# Altium footprint library PcbLib1.PcbLib: 32 footprints (part 1 of 2)
Each footprint in its own frame and in the unit in brackets; x right, y up, seen from the top. Pads: shape width x height; smd on the part's side, far side on the other; paste and mask are expansions set on the pad; w line width, h text height; cw(c..) or ccw(c..) is an arc to the next point about the centre after c.
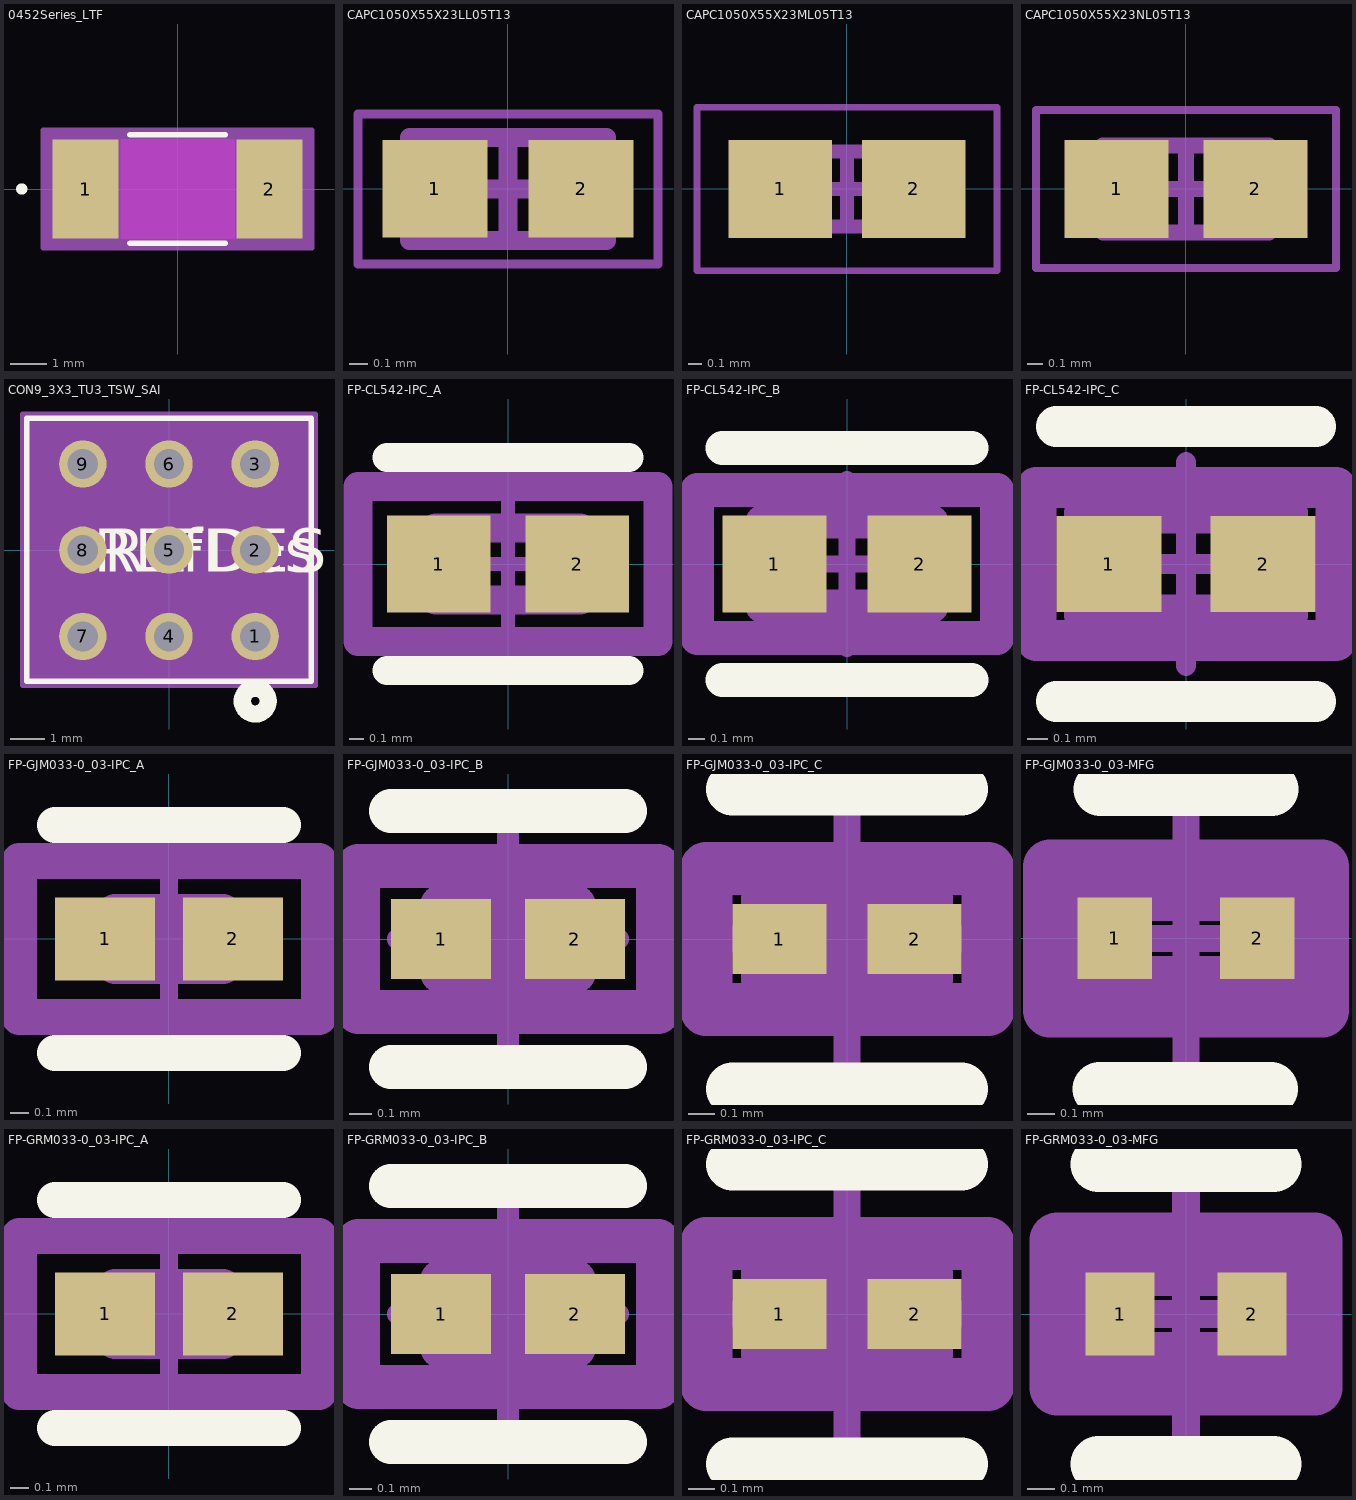
[diagram p0: the footprints below, top view; thin cyan lines are the x and y axes]

## 0452Series_LTF [mil]
pads (2):
  rect 70.78x106 smd paste+0 mask+0: 1(-98.39,0) 2(98.39,0)
Top Layer keep-out:
  region: -61,-51 -61,51 61,51 61,-51
Top Overlay:
  circle w6: c-166.78,0 r3
  lines w6: -50.89,-58 50.89,-58 ; -50.89,58 50.89,58
  text ".Designator" at -137.5,-25 h50
Keep-Out Layer:
  region: -61,-53 -61,53 61,53 61,-53
Mechanical 13:
  circle w1: c-110,0 r3
  lines w1: -120,-53 -120,53 ; -120,-53 -63,-53 -63,53 -120,53 ; -120,-53 120,-53 ; -120,-53 -120,53 ; -120,53 120,53 ; 120,-53 63,-53 63,53 120,53 ; 120,-53 120,53 ; 120,-53 120,53
  text ".Designator" at -137.5,-25 h50
Mechanical 15:
  region: 143.78,-63 -143.78,-63 -143.78,63 143.78,63
  lines w6: -143.78,-63 -143.78,63 143.78,63 143.78,-63 -143.78,-63
3D body "0452Series_LTF.step": height 105.98, standoff 0, extent -120,-52.99 120,52.99

## CAPC1050X55X23LL05T13 [mm] "Chip Capacitor, 2-Leads, Body 1.05x0.55mm, IPC High Density"
height 0.55
pads (2):
  rect 0.56x0.52 smd: 1(-0.39,0) 2(0.39,0)
Mechanical 13:
  lines w0.1: -0.525,-0.275 0.525,-0.275 0.525,0.275 -0.525,0.275 -0.525,-0.275
Mechanical 15:
  lines w0.05: -0.8,-0.4 0.8,-0.4 0.8,0.4 -0.8,0.4 -0.8,-0.4
  lines w0.1: -0.275,0 0.275,0 ; 0,-0.275 0,0.275
3D body: height 0.55, standoff 0, extent 0.295,-0.275 0.525,0.275
3D body: height 0.55, standoff 0, extent -0.525,-0.275 -0.295,0.275
3D body: height 0.55, standoff 0, extent -0.295,-0.275 0.295,0.275

## CAPC1050X55X23ML05T13 [mm] "Chip Capacitor, 2-Leads, Body 1.05x0.55mm, IPC Low Density"
height 0.55
pads (2):
  rect 0.76x0.72 smd: 1(-0.49,0) 2(0.49,0)
Mechanical 13:
  lines w0.1: -0.525,-0.275 0.525,-0.275 0.525,0.275 -0.525,0.275 -0.525,-0.275
Mechanical 15:
  lines w0.05: -1.1,-0.6 1.1,-0.6 1.1,0.6 -1.1,0.6 -1.1,-0.6
  lines w0.1: -0.275,0 0.275,0 ; 0,-0.275 0,0.275
3D body: height 0.55, standoff 0, extent 0.295,-0.275 0.525,0.275
3D body: height 0.55, standoff 0, extent -0.525,-0.275 -0.295,0.275
3D body: height 0.55, standoff 0, extent -0.295,-0.275 0.295,0.275

## CAPC1050X55X23NL05T13 [mm] "Chip Capacitor, 2-Leads, Body 1.05x0.55mm, IPC Medium Density"
height 0.55
pads (2):
  rect 0.66x0.62 smd: 1(-0.44,0) 2(0.44,0)
Mechanical 13:
  lines w0.1: -0.525,-0.275 -0.525,0.275 0.525,0.275 0.525,-0.275 -0.525,-0.275
Mechanical 15:
  lines w0.05: -0.95,-0.5 -0.95,0.5 0.95,0.5 0.95,-0.5 -0.95,-0.5
  lines w0.1: -0.275,0 0.275,0 ; 0,-0.275 0,0.275
3D body: height 0.55, standoff 0, extent -0.295,-0.275 0.295,0.275
3D body: height 0.55, standoff 0, extent -0.525,-0.275 -0.295,0.275
3D body: height 0.55, standoff 0, extent 0.295,-0.275 0.525,0.275

## CON9_3X3_TU3_TSW_SAI [mil]
pads (9):
  round 55 / inner round 60 / far side round 55 hole 35 paste-99999 mask+0: 1(100,-100) 2(100,0) 3(100,100) 4(0,-100) 5(0,0) 6(0,100) 7(-100,-100) 8(-100,0) 9(-100,100)
Top Overlay:
  circle w20: c100,-175 r15
  lines w6: -165,-152 165,-152 165,153 -165,153 -165,-152
  text "RefDes" at -75,-25 h50
  text "REFDES" at -87.5,-25 h50
Bottom Overlay:
  circle w20: c100,-175 r15
Mechanical 13:
  circle w0: c100,-100 r10
  lines w1: -160,-147 160,-147 160,148 -160,148 -160,-147
  text "RefDes2" at -87.5,-25 h50
Mechanical 15:
  region: 170,158 137.5,158 -137.5,158 -170,158 -170,-157 -137.5,-157 137.5,-157 170,-157
  lines w6: -170,-157 -170,158 -137.5,158 137.5,158 170,158 170,-157 137.5,-157 -137.5,-157 -170,-157

## FP-CL542-IPC_A [mil]
pads (2):
  rect 28.16x26.48 smd paste+0 mask+0: 1(-18.84,0) 2(18.84,0)
Top Overlay:
  lines w7.87: -32.92,-28.99 32.92,-28.99 ; -32.92,28.99 32.92,28.99
Top 3D Body:
  lines w7.87: -19.68,-9.84 19.68,-9.84 19.68,9.84 -19.68,9.84 -19.68,-9.84
Top Courtyard:
  lines w7.87: -40.8,-21.11 40.8,-21.11 40.8,21.11 -40.8,21.11 -40.8,-21.11
Top Assembly:
  lines w7.87: -40.8,-21.11 40.8,-21.11 40.8,21.11 -40.8,21.11 -40.8,-21.11
  text ".Designator" at 0,7.4 h39.37
Top Component Center:
  lines w3.94: -19.68,0 19.68,0 ; 0,-19.68 0,19.68
3D body "Cap_Samsung_CL05A105KA5NQNC_eec.STEP": height 10, standoff 0, extent -40.8,-21.11 40.8,21.11

## FP-CL542-IPC_B [mil]
pads (2):
  rect 24.23x22.54 smd paste+0 mask+0: 1(-16.87,0) 2(16.87,0)
Top Overlay:
  lines w7.87: -28.99,-27.02 28.99,-27.02 ; -28.99,27.02 28.99,27.02
Top 3D Body:
  lines w7.87: -19.68,-9.84 -19.68,9.84 19.68,9.84 19.68,-9.84 -19.68,-9.84
Top Courtyard:
  lines w7.87: -34.89,-17.17 -34.89,17.17 34.89,17.17 34.89,-17.17 -34.89,-17.17
Top Assembly:
  lines w7.87: -34.89,-17.17 -34.89,17.17 34.89,17.17 34.89,-17.17 -34.89,-17.17
  text ".Designator" at 0,-0.01 h39.37
Top Component Center:
  lines w3.94: -19.68,0 19.68,0 -19.68,0 ; 0,-19.68 0,19.68 0,-19.68
3D body "Cap_Samsung_CL05A105KA5NQNC_eec.STEP": height 10, standoff 0, extent -34.89,-17.17 34.89,17.17

## FP-CL542-IPC_C [mil]
pads (2):
  rect 20.29x18.6 smd paste+0 mask+0: 1(-14.9,0) 2(14.9,0)
Top Overlay:
  lines w7.87: -25.05,-26.57 25.05,-26.57 ; -25.05,26.57 25.05,26.57
Top 3D Body:
  lines w7.87: -19.68,-9.84 -19.68,9.84 19.68,9.84 19.68,-9.84 -19.68,-9.84
Top Courtyard:
  lines w7.87: -28.99,-14.76 -28.99,14.76 28.99,14.76 28.99,-14.76 -28.99,-14.76
Top Assembly:
  lines w7.87: -28.99,-14.76 -28.99,14.76 28.99,14.76 28.99,-14.76 -28.99,-14.76
  text ".Designator" at 0,-0.01 h39.37
Top Component Center:
  lines w3.94: -19.68,0 19.68,0 -19.68,0 ; 0,-19.68 0,19.68 0,-19.68
3D body "Cap_Samsung_CL05A105KA5NQNC_eec.STEP": height 10, standoff 0, extent -28.99,-14.76 28.99,14.76

## FP-GJM033-0_03-IPC_A [mil]
pads (2):
  rect 21.82x18.22 smd paste+0 mask+0: 1(-13.95,0) 2(13.95,0)
Top Overlay:
  lines w7.87: -24.86,-24.86 24.86,-24.86 ; -24.86,24.86 24.86,24.86
Top 3D Body:
  lines w7.87: -11.81,-5.91 -11.81,5.91 11.81,5.91 11.81,-5.91 -11.81,-5.91
Top Courtyard:
  lines w7.87: -32.73,-16.98 -32.73,16.98 32.73,16.98 32.73,-16.98 -32.73,-16.98
Top Assembly:
  lines w7.87: -32.73,-16.98 -32.73,16.98 32.73,16.98 32.73,-16.98 -32.73,-16.98
  text ".Designator" at 0,7.4 h39.37
Top Component Center:
  lines w3.94: -19.68,0 19.68,0 ; 0,-19.68 0,19.68
3D body "Cap_Murata_GJM0334C1ER30WB01D_eec.STEP": height 10, standoff 0, extent -32.73,-16.98 32.73,16.98

## FP-GJM033-0_03-IPC_B [mil]
pads (2):
  rect 17.88x14.28 smd paste+0 mask+0: 1(-11.98,0) 2(11.98,0)
Top Overlay:
  lines w7.87: -20.92,-22.89 20.92,-22.89 ; -20.92,22.89 20.92,22.89
Top 3D Body:
  lines w7.87: -11.81,-5.91 -11.81,5.91 11.81,5.91 11.81,-5.91 -11.81,-5.91
Top Courtyard:
  lines w7.87: -26.83,-13.05 -26.83,13.05 26.83,13.05 26.83,-13.05 -26.83,-13.05
Top Assembly:
  lines w7.87: -26.83,-13.05 -26.83,13.05 26.83,13.05 26.83,-13.05 -26.83,-13.05
  text ".Designator" at 0,7.4 h39.37
Top Component Center:
  lines w3.94: -19.68,0 19.68,0 ; 0,-19.68 0,19.68
3D body "Cap_Murata_GJM0334C1ER30WB01D_eec.STEP": height 10, standoff 0, extent -26.83,-13.05 26.83,13.05

## FP-GJM033-0_03-IPC_C [mil]
pads (2):
  rect 13.94x10.34 smd paste+0 mask+0: 1(-10.01,0) 2(10.01,0)
Top Overlay:
  lines w7.87: -16.98,-22.24 16.98,-22.24 ; -16.98,22.24 16.98,22.24
Top 3D Body:
  lines w7.87: -11.81,-5.91 11.81,-5.91 11.81,5.91 -11.81,5.91 -11.81,-5.91
Top Courtyard:
  lines w7.87: -20.92,-10.43 20.92,-10.43 20.92,10.43 -20.92,10.43 -20.92,-10.43
Top Assembly:
  lines w7.87: -20.92,-10.43 20.92,-10.43 20.92,10.43 -20.92,10.43 -20.92,-10.43
  text ".Designator" at 0,7.4 h39.37
Top Component Center:
  lines w3.94: -19.68,0 19.68,0 ; 0,-19.68 0,19.68
3D body "Cap_Murata_GJM0334C1ER30WB01D_eec.STEP": height 10, standoff 0, extent -20.92,-10.43 20.92,10.43

## FP-GJM033-0_03-MFG [mm]
pads (2):
  rect 0.275x0.3 smd paste+0 mask+0: 1(-0.262,0) 2(0.262,0)
Top Overlay:
  lines w0.2: -0.318,-0.554 0.312,-0.554 ; -0.315,0.55 0.315,0.55
Top 3D Body:
  lines w0.2: -0.315,-0.165 0.315,-0.165 0.315,0.165 -0.315,0.165 -0.315,-0.165
Top Courtyard:
  lines w0.2: -0.5,-0.265 0.5,-0.265 0.5,0.265 -0.5,0.265 -0.5,-0.265
Top Assembly:
  lines w0.2: -0.5,-0.265 0.5,-0.265 0.5,0.265 -0.5,0.265 -0.5,-0.265
  text ".Designator" at 0,0.188 h1
Top Component Center:
  lines w0.1: -0.5,0 0.5,0 ; 0,-0.5 0,0.5
3D body "Cap_Murata_GJM0334C1ER30WB01D_eec.STEP": height 0.25, standoff 0, extent -0.5,-0.265 0.5,0.265

## FP-GRM033-0_03-IPC_A [mil]
pads (2):
  rect 21.82x18.22 smd paste+0 mask+0: 1(-13.95,0) 2(13.95,0)
Top Overlay:
  lines w7.87: -24.86,-24.86 24.86,-24.86 ; -24.86,24.86 24.86,24.86
Top 3D Body:
  lines w7.87: -11.81,-5.91 11.81,-5.91 11.81,5.91 -11.81,5.91 -11.81,-5.91
Top Courtyard:
  lines w7.87: -32.73,-16.98 32.73,-16.98 32.73,16.98 -32.73,16.98 -32.73,-16.98
Top Assembly:
  lines w7.87: -32.73,-16.98 32.73,-16.98 32.73,16.98 -32.73,16.98 -32.73,-16.98
  text ".Designator" at 0,7.4 h39.37
Top Component Center:
  lines w3.94: -19.68,0 19.68,0 ; 0,-19.68 0,19.68
3D body "Cap_Murata_GRM0335C1HR30BA01D_eec.STEP": height 10, standoff 0, extent -32.73,-16.98 32.73,16.98

## FP-GRM033-0_03-IPC_B [mil]
pads (2):
  rect 17.88x14.28 smd paste+0 mask+0: 1(-11.98,0) 2(11.98,0)
Top Overlay:
  lines w7.87: -20.92,-22.89 20.92,-22.89 ; -20.92,22.89 20.92,22.89
Top 3D Body:
  lines w7.87: -11.81,-5.91 -11.81,5.91 11.81,5.91 11.81,-5.91 -11.81,-5.91
Top Courtyard:
  lines w7.87: -26.83,-13.05 -26.83,13.05 26.83,13.05 26.83,-13.05 -26.83,-13.05
Top Assembly:
  lines w7.87: -26.83,-13.05 -26.83,13.05 26.83,13.05 26.83,-13.05 -26.83,-13.05
  text ".Designator" at 0,7.4 h39.37
Top Component Center:
  lines w3.94: -19.68,0 19.68,0 ; 0,-19.68 0,19.68
3D body "Cap_Murata_GRM0335C1HR30BA01D_eec.STEP": height 10, standoff 0, extent -26.83,-13.05 26.83,13.05

## FP-GRM033-0_03-IPC_C [mil]
pads (2):
  rect 13.94x10.34 smd paste+0 mask+0: 1(-10.01,0) 2(10.01,0)
Top Overlay:
  lines w7.87: -16.98,-22.24 16.98,-22.24 ; -16.98,22.24 16.98,22.24
Top 3D Body:
  lines w7.87: -11.81,-5.91 11.81,-5.91 11.81,5.91 -11.81,5.91 -11.81,-5.91
Top Courtyard:
  lines w7.87: -20.92,-10.43 20.92,-10.43 20.92,10.43 -20.92,10.43 -20.92,-10.43
Top Assembly:
  lines w7.87: -20.92,-10.43 20.92,-10.43 20.92,10.43 -20.92,10.43 -20.92,-10.43
  text ".Designator" at 0,7.4 h39.37
Top Component Center:
  lines w3.94: -19.68,0 19.68,0 ; 0,-19.68 0,19.68
3D body "Cap_Murata_GRM0335C1HR30BA01D_eec.STEP": height 10, standoff 0, extent -20.92,-10.43 20.92,10.43

## FP-GRM033-0_03-MFG [mm]
pads (2):
  rect 0.25x0.3 smd paste+0 mask+0: 1(-0.238,0) 2(0.238,0)
Top Overlay:
  lines w0.2: -0.315,-0.54 0.315,-0.54 ; -0.315,0.54 0.315,0.54
Top 3D Body:
  lines w0.2: -0.315,-0.165 -0.315,0.165 0.315,0.165 0.315,-0.165 -0.315,-0.165
Top Courtyard:
  lines w0.2: -0.463,-0.265 -0.463,0.265 0.463,0.265 0.463,-0.265 -0.463,-0.265
Top Assembly:
  lines w0.2: -0.463,-0.265 -0.463,0.265 0.463,0.265 0.463,-0.265 -0.463,-0.265
  text ".Designator" at 0,0.188 h1
Top Component Center:
  lines w0.1: -0.5,0 0.5,0 ; 0,-0.5 0,0.5
3D body "Cap_Murata_GRM0335C1HR30BA01D_eec.STEP": height 0.25, standoff 0, extent -0.463,-0.265 0.463,0.265